# Altium integrated library TI Data Converters Analog to Digital Converter.IntLib: 2197 symbols (part 111 of 168)
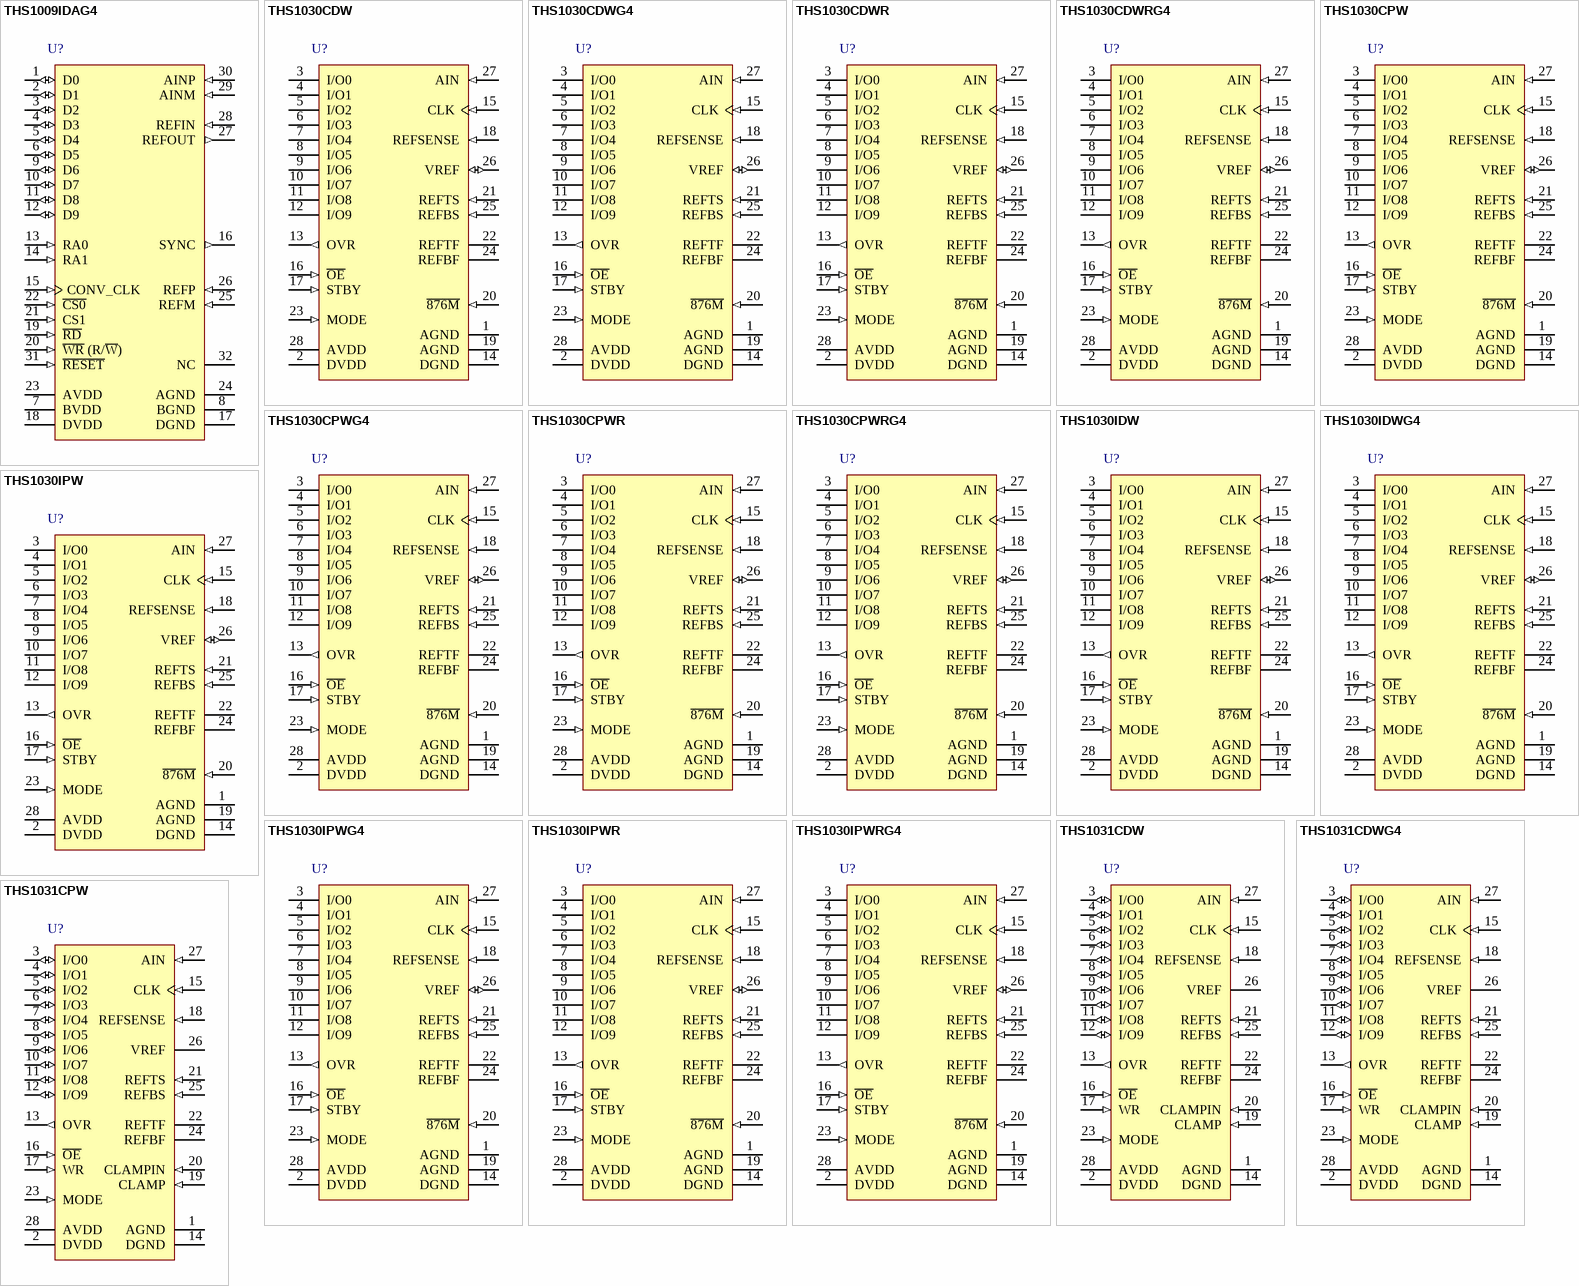
[diagram p236: symbols THS1009IDAG4 to THS1031CPW]

## THS1031CDW
designator U?
10-Bit, 30 MSPS ADC Single Channel, Integral Programmable Digital Clamp & Gain, Out of Range Indicator, Power Down, 0 to 70 degC, 28-pin SOIC (DW28), Green (RoHS & no Sb/Br); Manufacturer: Texas Instruments; PartNumber: THS1031CDW; # Input Channels: 1; Analog Voltage AV/DD(Max)(V): 5.5; Analog Voltage AV/DD(Min)(V): 3; Architecture: Pipeline; ENOB(Bits): 7.7; INL(Max)(+/-LSB): 2; Interface: Parallel CMOS; Resolution(Bits): 10; Sample Rate (max)(SPS): 30M; SFDR(dB): 48; SINAD(dB): 48.1; SNR(dB): 53; SubFamily: High Speed ADC (>10MSPS); DatasheetVersion: SLAS242E; PackageVersion: 4040000-6/G, 01/2011; PackageReference: DW28; PackageDescription: 28-Pin Plastic Small Outline, Body 17.90 x 7.50 mm, Pitch 1.27 mm; Supplier 1: Digi-Key; Supplier Part Number 1: ADS6222IRGZRG4-ND; Supplier 2: Mouser; Supplier Part Number 2: 595-ADS6222IRGZRG4; Digital Supply(Max)(V): 5.5; Digital Supply(Min)(V): 3; Eco-Plan: Green (RoHS & no Sb/Br); Mounting Technology: Surface Mount; Code_JEDEC: MS-013; ComponentLink1Description: Manufacturer URL; ComponentLink1URL: http://www.ti.com/; ComponentLink2Description: Datasheet; ComponentLink2URL: http://www.ti.com/general/docs/lit/getliterature.tsp?genericPartNumber=THS1031&fileType=pdf; ComponentLink3Description: Package Specification; ComponentLink3URL: http://www.ti.com/lit/ml/mpds175a/mpds175a.pdf
footprint TI-DW28_N (SOIC, 28-Leads, Body 17.9x7.5mm, Pitch 1.27mm, IPC Medium Density)
footprint TI-DW28_L (SOIC, 28-Leads, Body 17.9x7.5mm, Pitch 1.27mm, IPC High Density)
footprint TI-DW28_M (SOIC, 28-Leads, Body 17.9x7.5mm, Pitch 1.27mm, IPC Low Density)
pins: 1 AGND (power) "Analog ground", 2 DVDD (power) "Digital driver supply", 3 I/O0 (io) "Digital I/O bit 0 (LSB)", 4 I/O1 (io) "Digital I/O bit 1", 5 I/O2 (io) "Digital I/O bit 2", 6 I/O3 (io) "Digital I/O bit 3", 7 I/O4 (io) "Digital I/O bit 4", 8 I/O5 (io) "Digital I/O bit 5", 9 I/O6 (io) "Digital I/O bit 6", 10 I/O7 (io) "Digital I/O bit 7", 11 I/O8 (io) "Digital I/O bit 8", 12 I/O9 (io) "Digital I/O bit 9 (MSB)", 13 OVR (out) "Out-of-range indicator", 14 DGND (power) "Digital ground", 15 CLK (in) "Clock input", 16 ~{OE} (in) "High to 3-state the data bus, low to enable the data bus", 17 WR (in) "Write strobe", 18 REFSENSE (in) "Reference sense", 19 CLAMP (in) "High to enable clamp mode, low to disable clamp mode", 20 CLAMPIN (in) "Connect to an external analog clamp reference input", 21 REFTS (in) "Reference top sense", 22 REFTF "Reference top decoupling", 23 MODE (in) "Mode input", 24 REFBF "Reference bottom decoupling", 25 REFBS (in) "Reference bottom sense", 26 VREF "Internal and external reference", 27 AIN (in) "Analog input", 28 AVDD (power) "Analog supply"

## THS1031CDWG4
designator U?
10-Bit, 30 MSPS ADC Single Channel, Integral Programmable Digital Clamp & Gain, Out of Range Indicator, Power Down, 0 to 70 degC, 28-pin SOIC (DW28), Green (RoHS & no Sb/Br); Manufacturer: Texas Instruments; PartNumber: THS1031CDWG4; # Input Channels: 1; Analog Voltage AV/DD(Max)(V): 5.5; Analog Voltage AV/DD(Min)(V): 3; Architecture: Pipeline; ENOB(Bits): 7.7; INL(Max)(+/-LSB): 2; Interface: Parallel CMOS; Resolution(Bits): 10; Sample Rate (max)(SPS): 30M; SFDR(dB): 48; SINAD(dB): 48.1; SNR(dB): 53; SubFamily: High Speed ADC (>10MSPS); DatasheetVersion: SLAS242E; PackageVersion: 4040000-6/G, 01/2011; PackageReference: DW28; PackageDescription: 28-Pin Plastic Small Outline, Body 17.90 x 7.50 mm, Pitch 1.27 mm; Supplier 1: Digi-Key; Supplier Part Number 1: 296-22664-2-ND; Supplier 2: Digi-Key; Supplier Part Number 2: 296-22664-1-ND; Supplier 3: Digi-Key; Supplier Part Number 3: 296-22664-6-ND; Supplier 4: Farnell; Supplier Part Number 4: 1754716; Supplier 5: Newark; Supplier Part Number 5: 93R5054; Supplier 6: Mouser; Supplier Part Number 6: 595-ADS6222IRGZT; Digital Supply(Max)(V): 5.5; Digital Supply(Min)(V): 3; Eco-Plan: Green (RoHS & no Sb/Br); Mounting Technology: Surface Mount; Code_JEDEC: MS-013; ComponentLink1Description: Manufacturer URL; ComponentLink1URL: http://www.ti.com/; ComponentLink2Description: Datasheet; ComponentLink2URL: http://www.ti.com/general/docs/lit/getliterature.tsp?genericPartNumber=THS1031&fileType=pdf; ComponentLink3Description: Package Specification; ComponentLink3URL: http://www.ti.com/lit/ml/mpds175a/mpds175a.pdf
footprint TI-DW28_N (SOIC, 28-Leads, Body 17.9x7.5mm, Pitch 1.27mm, IPC Medium Density)
footprint TI-DW28_L (SOIC, 28-Leads, Body 17.9x7.5mm, Pitch 1.27mm, IPC High Density)
footprint TI-DW28_M (SOIC, 28-Leads, Body 17.9x7.5mm, Pitch 1.27mm, IPC Low Density)
pins: 1 AGND (power) "Analog ground", 2 DVDD (power) "Digital driver supply", 3 I/O0 (io) "Digital I/O bit 0 (LSB)", 4 I/O1 (io) "Digital I/O bit 1", 5 I/O2 (io) "Digital I/O bit 2", 6 I/O3 (io) "Digital I/O bit 3", 7 I/O4 (io) "Digital I/O bit 4", 8 I/O5 (io) "Digital I/O bit 5", 9 I/O6 (io) "Digital I/O bit 6", 10 I/O7 (io) "Digital I/O bit 7", 11 I/O8 (io) "Digital I/O bit 8", 12 I/O9 (io) "Digital I/O bit 9 (MSB)", 13 OVR (out) "Out-of-range indicator", 14 DGND (power) "Digital ground", 15 CLK (in) "Clock input", 16 ~{OE} (in) "High to 3-state the data bus, low to enable the data bus", 17 WR (in) "Write strobe", 18 REFSENSE (in) "Reference sense", 19 CLAMP (in) "High to enable clamp mode, low to disable clamp mode", 20 CLAMPIN (in) "Connect to an external analog clamp reference input", 21 REFTS (in) "Reference top sense", 22 REFTF "Reference top decoupling", 23 MODE (in) "Mode input", 24 REFBF "Reference bottom decoupling", 25 REFBS (in) "Reference bottom sense", 26 VREF "Internal and external reference", 27 AIN (in) "Analog input", 28 AVDD (power) "Analog supply"

## THS1031CPW
designator U?
10-Bit, 30 MSPS ADC Single Channel, Integral Programmable Digital Clamp & Gain, Out of Range Indicator, Power Down, 0 to 70 degC, 28-pin SOP (PW28), Green (RoHS & no Sb/Br); Manufacturer: Texas Instruments; PartNumber: THS1031CPW; # Input Channels: 1; Analog Voltage AV/DD(Max)(V): 5.5; Analog Voltage AV/DD(Min)(V): 3; Architecture: Pipeline; ENOB(Bits): 7.7; INL(Max)(+/-LSB): 2; Interface: Parallel CMOS; Resolution(Bits): 10; Sample Rate (max)(SPS): 30M; SFDR(dB): 48; SINAD(dB): 48.1; SNR(dB): 53; SubFamily: High Speed ADC (>10MSPS); DatasheetVersion: SLAS242E; PackageVersion: 4040064-7/G, 02/2011; PackageReference: PW28; PackageDescription: 28-Pin Plastic Small Outline, Body 9.7 x 4.4 mm, Pitch 0.65 mm; Supplier 1: Digi-Key; Supplier Part Number 1: ADS6222IRGZTG4-ND; Supplier 2: Mouser; Supplier Part Number 2: 595-ADS6222IRGZTG4; Digital Supply(Max)(V): 5.5; Digital Supply(Min)(V): 3; Eco-Plan: Green (RoHS & no Sb/Br); Mounting Technology: Surface Mount; Code_JEDEC: MO-153; ComponentLink1Description: Manufacturer URL; ComponentLink1URL: http://www.ti.com/; ComponentLink2Description: Datasheet; ComponentLink2URL: http://www.ti.com/general/docs/lit/getliterature.tsp?genericPartNumber=THS1031&fileType=pdf; ComponentLink3Description: Package Specification; ComponentLink3URL: http://www.ti.com/litv/pdf/mpds364
footprint TI-PW28_N (SOP, 28-Leads, Body 9.7x4.4mm, Pitch 0.65mm, IPC Medium Density)
footprint TI-PW28_L (SOP, 28-Leads, Body 9.7x4.4mm, Pitch 0.65mm, IPC High Density)
footprint TI-PW28_M (SOP, 28-Leads, Body 9.7x4.4mm, Pitch 0.65mm, IPC Low Density)
pins: 1 AGND (power) "Analog ground", 2 DVDD (power) "Digital driver supply", 3 I/O0 (io) "Digital I/O bit 0 (LSB)", 4 I/O1 (io) "Digital I/O bit 1", 5 I/O2 (io) "Digital I/O bit 2", 6 I/O3 (io) "Digital I/O bit 3", 7 I/O4 (io) "Digital I/O bit 4", 8 I/O5 (io) "Digital I/O bit 5", 9 I/O6 (io) "Digital I/O bit 6", 10 I/O7 (io) "Digital I/O bit 7", 11 I/O8 (io) "Digital I/O bit 8", 12 I/O9 (io) "Digital I/O bit 9 (MSB)", 13 OVR (out) "Out-of-range indicator", 14 DGND (power) "Digital ground", 15 CLK (in) "Clock input", 16 ~{OE} (in) "High to 3-state the data bus, low to enable the data bus", 17 WR (in) "Write strobe", 18 REFSENSE (in) "Reference sense", 19 CLAMP (in) "High to enable clamp mode, low to disable clamp mode", 20 CLAMPIN (in) "Connect to an external analog clamp reference input", 21 REFTS (in) "Reference top sense", 22 REFTF "Reference top decoupling", 23 MODE (in) "Mode input", 24 REFBF "Reference bottom decoupling", 25 REFBS (in) "Reference bottom sense", 26 VREF "Internal and external reference", 27 AIN (in) "Analog input", 28 AVDD (power) "Analog supply"

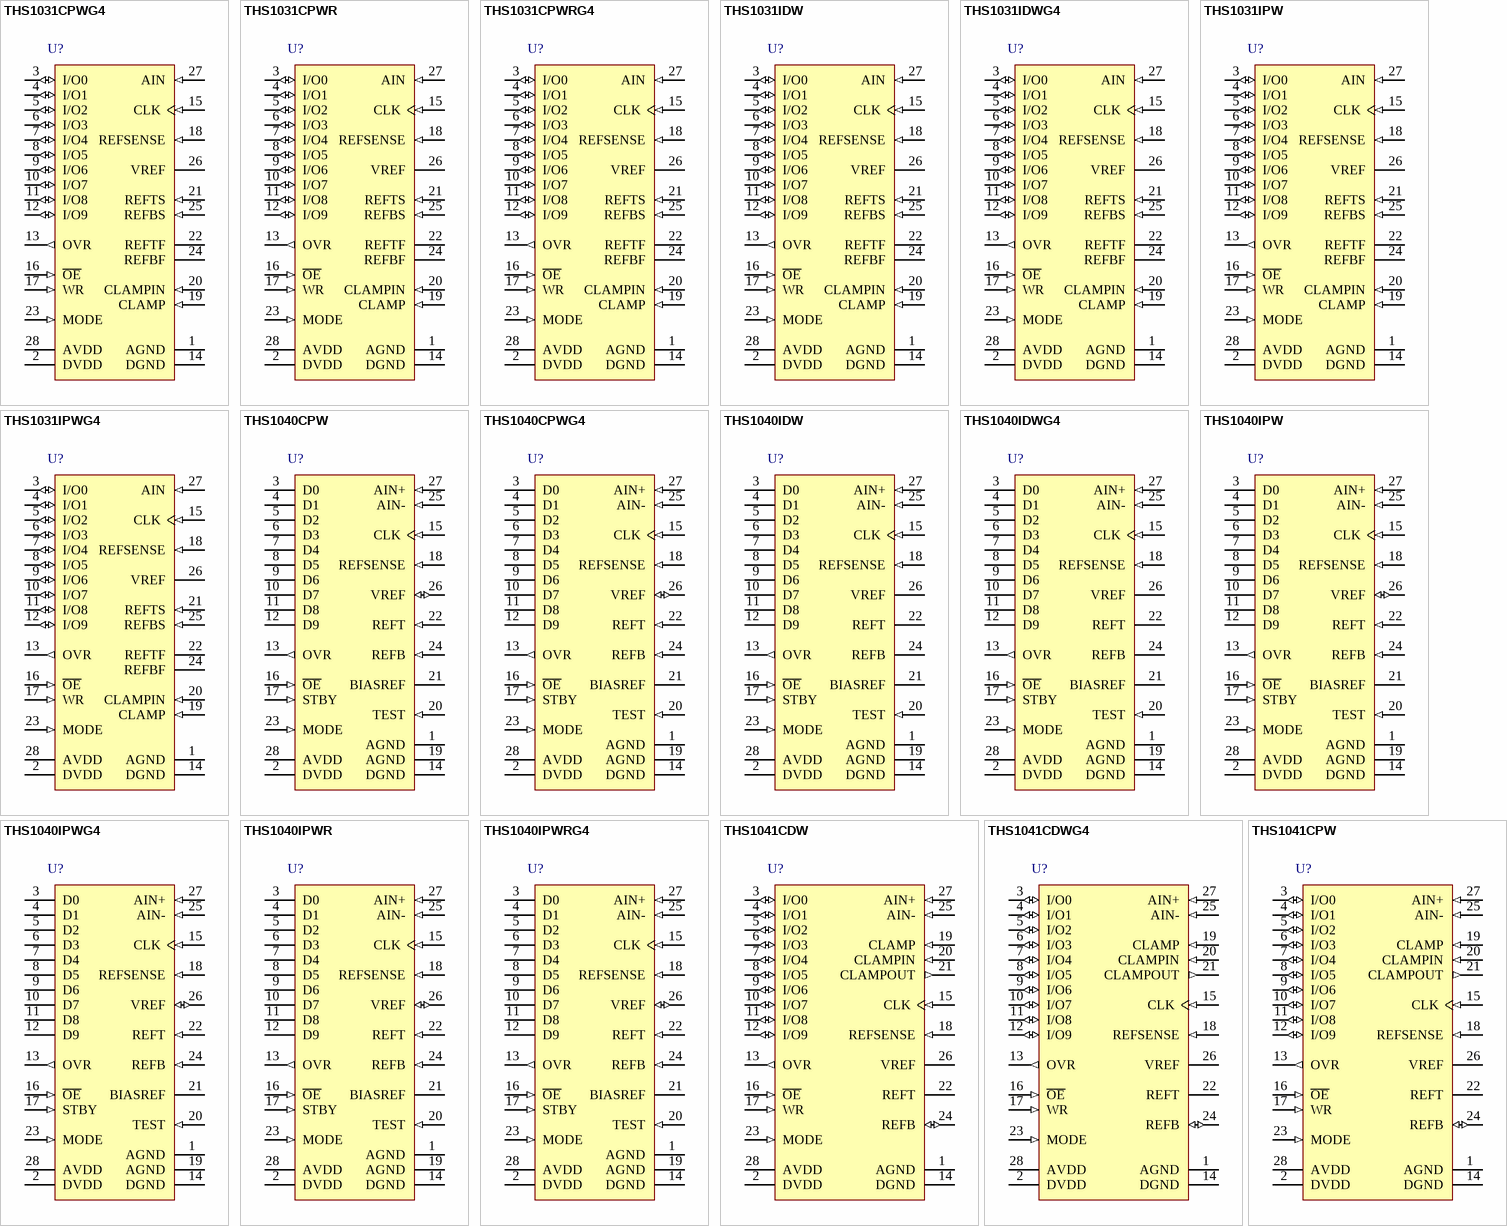
[diagram p95: symbols THS1031CPWG4 to THS1041CPW]

## THS1031CPWG4
designator U?
10-Bit, 30 MSPS ADC Single Channel, Integral Programmable Digital Clamp & Gain, Out of Range Indicator, Power Down, 0 to 70 degC, 28-pin SOP (PW28), Green (RoHS & no Sb/Br); Manufacturer: Texas Instruments; PartNumber: THS1031CPWG4; # Input Channels: 1; Analog Voltage AV/DD(Max)(V): 5.5; Analog Voltage AV/DD(Min)(V): 3; Architecture: Pipeline; ENOB(Bits): 7.7; INL(Max)(+/-LSB): 2; Interface: Parallel CMOS; Resolution(Bits): 10; Sample Rate (max)(SPS): 30M; SFDR(dB): 48; SINAD(dB): 48.1; SNR(dB): 53; SubFamily: High Speed ADC (>10MSPS); DatasheetVersion: SLAS242E; PackageVersion: 4040064-7/G, 02/2011; PackageReference: PW28; PackageDescription: 28-Pin Plastic Small Outline, Body 9.7 x 4.4 mm, Pitch 0.65 mm; Supplier 1: Digi-Key; Supplier Part Number 1: ADS6142IRHBR-ND; Supplier 2: Mouser; Supplier Part Number 2: 595-ADS6142IRHBR; Digital Supply(Max)(V): 5.5; Digital Supply(Min)(V): 3; Eco-Plan: Green (RoHS & no Sb/Br); Mounting Technology: Surface Mount; Code_JEDEC: MO-153; ComponentLink1Description: Manufacturer URL; ComponentLink1URL: http://www.ti.com/; ComponentLink2Description: Datasheet; ComponentLink2URL: http://www.ti.com/general/docs/lit/getliterature.tsp?genericPartNumber=THS1031&fileType=pdf; ComponentLink3Description: Package Specification; ComponentLink3URL: http://www.ti.com/litv/pdf/mpds364
footprint TI-PW28_N (SOP, 28-Leads, Body 9.7x4.4mm, Pitch 0.65mm, IPC Medium Density)
footprint TI-PW28_L (SOP, 28-Leads, Body 9.7x4.4mm, Pitch 0.65mm, IPC High Density)
footprint TI-PW28_M (SOP, 28-Leads, Body 9.7x4.4mm, Pitch 0.65mm, IPC Low Density)
pins: 1 AGND (power) "Analog ground", 2 DVDD (power) "Digital driver supply", 3 I/O0 (io) "Digital I/O bit 0 (LSB)", 4 I/O1 (io) "Digital I/O bit 1", 5 I/O2 (io) "Digital I/O bit 2", 6 I/O3 (io) "Digital I/O bit 3", 7 I/O4 (io) "Digital I/O bit 4", 8 I/O5 (io) "Digital I/O bit 5", 9 I/O6 (io) "Digital I/O bit 6", 10 I/O7 (io) "Digital I/O bit 7", 11 I/O8 (io) "Digital I/O bit 8", 12 I/O9 (io) "Digital I/O bit 9 (MSB)", 13 OVR (out) "Out-of-range indicator", 14 DGND (power) "Digital ground", 15 CLK (in) "Clock input", 16 ~{OE} (in) "High to 3-state the data bus, low to enable the data bus", 17 WR (in) "Write strobe", 18 REFSENSE (in) "Reference sense", 19 CLAMP (in) "High to enable clamp mode, low to disable clamp mode", 20 CLAMPIN (in) "Connect to an external analog clamp reference input", 21 REFTS (in) "Reference top sense", 22 REFTF "Reference top decoupling", 23 MODE (in) "Mode input", 24 REFBF "Reference bottom decoupling", 25 REFBS (in) "Reference bottom sense", 26 VREF "Internal and external reference", 27 AIN (in) "Analog input", 28 AVDD (power) "Analog supply"

## THS1031CPWR
designator U?
10-Bit, 30 MSPS ADC Single Channel, Integral Programmable Digital Clamp & Gain, Out of Range Indicator, Power Down, 0 to 70 degC, 28-pin SOP (PW28), Green (RoHS & no Sb/Br); Manufacturer: Texas Instruments; PartNumber: THS1031CPWR; # Input Channels: 1; Analog Voltage AV/DD(Max)(V): 5.5; Analog Voltage AV/DD(Min)(V): 3; Architecture: Pipeline; ENOB(Bits): 7.7; INL(Max)(+/-LSB): 2; Interface: Parallel CMOS; Resolution(Bits): 10; Sample Rate (max)(SPS): 30M; SFDR(dB): 48; SINAD(dB): 48.1; SNR(dB): 53; SubFamily: High Speed ADC (>10MSPS); DatasheetVersion: SLAS242E; PackageVersion: 4040064-7/G, 02/2011; PackageReference: PW28; PackageDescription: 28-Pin Plastic Small Outline, Body 9.7 x 4.4 mm, Pitch 0.65 mm; Supplier 1: Digi-Key; Supplier Part Number 1: ADS6142IRHBRG4-ND; Supplier 2: Mouser; Supplier Part Number 2: 595-ADS6142IRHBRG4; Digital Supply(Max)(V): 5.5; Digital Supply(Min)(V): 3; Eco-Plan: Green (RoHS & no Sb/Br); Mounting Technology: Surface Mount; Code_JEDEC: MO-153; ComponentLink1Description: Manufacturer URL; ComponentLink1URL: http://www.ti.com/; ComponentLink2Description: Datasheet; ComponentLink2URL: http://www.ti.com/general/docs/lit/getliterature.tsp?genericPartNumber=THS1031&fileType=pdf; ComponentLink3Description: Package Specification; ComponentLink3URL: http://www.ti.com/litv/pdf/mpds364
footprint TI-PW28_N (SOP, 28-Leads, Body 9.7x4.4mm, Pitch 0.65mm, IPC Medium Density)
footprint TI-PW28_L (SOP, 28-Leads, Body 9.7x4.4mm, Pitch 0.65mm, IPC High Density)
footprint TI-PW28_M (SOP, 28-Leads, Body 9.7x4.4mm, Pitch 0.65mm, IPC Low Density)
pins: 1 AGND (power) "Analog ground", 2 DVDD (power) "Digital driver supply", 3 I/O0 (io) "Digital I/O bit 0 (LSB)", 4 I/O1 (io) "Digital I/O bit 1", 5 I/O2 (io) "Digital I/O bit 2", 6 I/O3 (io) "Digital I/O bit 3", 7 I/O4 (io) "Digital I/O bit 4", 8 I/O5 (io) "Digital I/O bit 5", 9 I/O6 (io) "Digital I/O bit 6", 10 I/O7 (io) "Digital I/O bit 7", 11 I/O8 (io) "Digital I/O bit 8", 12 I/O9 (io) "Digital I/O bit 9 (MSB)", 13 OVR (out) "Out-of-range indicator", 14 DGND (power) "Digital ground", 15 CLK (in) "Clock input", 16 ~{OE} (in) "High to 3-state the data bus, low to enable the data bus", 17 WR (in) "Write strobe", 18 REFSENSE (in) "Reference sense", 19 CLAMP (in) "High to enable clamp mode, low to disable clamp mode", 20 CLAMPIN (in) "Connect to an external analog clamp reference input", 21 REFTS (in) "Reference top sense", 22 REFTF "Reference top decoupling", 23 MODE (in) "Mode input", 24 REFBF "Reference bottom decoupling", 25 REFBS (in) "Reference bottom sense", 26 VREF "Internal and external reference", 27 AIN (in) "Analog input", 28 AVDD (power) "Analog supply"

## THS1031CPWRG4
designator U?
10-Bit, 30 MSPS ADC Single Channel, Integral Programmable Digital Clamp & Gain, Out of Range Indicator, Power Down, 0 to 70 degC, 28-pin SOP (PW28), Green (RoHS & no Sb/Br); Manufacturer: Texas Instruments; PartNumber: THS1031CPWRG4; # Input Channels: 1; Analog Voltage AV/DD(Max)(V): 5.5; Analog Voltage AV/DD(Min)(V): 3; Architecture: Pipeline; ENOB(Bits): 7.7; INL(Max)(+/-LSB): 2; Interface: Parallel CMOS; Resolution(Bits): 10; Sample Rate (max)(SPS): 30M; SFDR(dB): 48; SINAD(dB): 48.1; SNR(dB): 53; SubFamily: High Speed ADC (>10MSPS); DatasheetVersion: SLAS242E; PackageVersion: 4040064-7/G, 02/2011; PackageReference: PW28; PackageDescription: 28-Pin Plastic Small Outline, Body 9.7 x 4.4 mm, Pitch 0.65 mm; Supplier 1: Digi-Key; Supplier Part Number 1: 296-22737-2-ND; Supplier 2: Digi-Key; Supplier Part Number 2: 296-22737-1-ND; Supplier 3: Digi-Key; Supplier Part Number 3: 296-22737-6-ND; Supplier 4: Farnell; Supplier Part Number 4: 1754708; Supplier 5: Newark; Supplier Part Number 5: 61M4802; Supplier 6: Mouser; Supplier Part Number 6: 595-ADS6142IRHBT; Digital Supply(Max)(V): 5.5; Digital Supply(Min)(V): 3; Eco-Plan: Green (RoHS & no Sb/Br); Mounting Technology: Surface Mount; Code_JEDEC: MO-153; ComponentLink1Description: Manufacturer URL; ComponentLink1URL: http://www.ti.com/; ComponentLink2Description: Datasheet; ComponentLink2URL: http://www.ti.com/general/docs/lit/getliterature.tsp?genericPartNumber=THS1031&fileType=pdf; ComponentLink3Description: Package Specification; ComponentLink3URL: http://www.ti.com/litv/pdf/mpds364
footprint TI-PW28_N (SOP, 28-Leads, Body 9.7x4.4mm, Pitch 0.65mm, IPC Medium Density)
footprint TI-PW28_L (SOP, 28-Leads, Body 9.7x4.4mm, Pitch 0.65mm, IPC High Density)
footprint TI-PW28_M (SOP, 28-Leads, Body 9.7x4.4mm, Pitch 0.65mm, IPC Low Density)
pins: 1 AGND (power) "Analog ground", 2 DVDD (power) "Digital driver supply", 3 I/O0 (io) "Digital I/O bit 0 (LSB)", 4 I/O1 (io) "Digital I/O bit 1", 5 I/O2 (io) "Digital I/O bit 2", 6 I/O3 (io) "Digital I/O bit 3", 7 I/O4 (io) "Digital I/O bit 4", 8 I/O5 (io) "Digital I/O bit 5", 9 I/O6 (io) "Digital I/O bit 6", 10 I/O7 (io) "Digital I/O bit 7", 11 I/O8 (io) "Digital I/O bit 8", 12 I/O9 (io) "Digital I/O bit 9 (MSB)", 13 OVR (out) "Out-of-range indicator", 14 DGND (power) "Digital ground", 15 CLK (in) "Clock input", 16 ~{OE} (in) "High to 3-state the data bus, low to enable the data bus", 17 WR (in) "Write strobe", 18 REFSENSE (in) "Reference sense", 19 CLAMP (in) "High to enable clamp mode, low to disable clamp mode", 20 CLAMPIN (in) "Connect to an external analog clamp reference input", 21 REFTS (in) "Reference top sense", 22 REFTF "Reference top decoupling", 23 MODE (in) "Mode input", 24 REFBF "Reference bottom decoupling", 25 REFBS (in) "Reference bottom sense", 26 VREF "Internal and external reference", 27 AIN (in) "Analog input", 28 AVDD (power) "Analog supply"

## THS1031IDW
designator U?
10-Bit, 30 MSPS ADC Single Channel, Integral Programmable Digital Clamp & Gain, Out of Range Indicator, Power Down, -40 to 85 degC, 28-pin SOIC (DW28), Green (RoHS & no Sb/Br); Manufacturer: Texas Instruments; PartNumber: THS1031IDW; # Input Channels: 1; Analog Voltage AV/DD(Max)(V): 5.5; Analog Voltage AV/DD(Min)(V): 3; Architecture: Pipeline; ENOB(Bits): 7.7; INL(Max)(+/-LSB): 2; Interface: Parallel CMOS; Resolution(Bits): 10; Sample Rate (max)(SPS): 30M; SFDR(dB): 48; SINAD(dB): 48.1; SNR(dB): 53; SubFamily: High Speed ADC (>10MSPS); DatasheetVersion: SLAS242E; PackageVersion: 4040000-6/G, 01/2011; PackageReference: DW28; PackageDescription: 28-Pin Plastic Small Outline, Body 17.90 x 7.50 mm, Pitch 1.27 mm; Supplier 1: Digi-Key; Supplier Part Number 1: ADS6142IRHBTG4-ND; Supplier 2: Mouser; Supplier Part Number 2: 595-ADS6142IRHBTG4; Digital Supply(Max)(V): 5.5; Digital Supply(Min)(V): 3; Eco-Plan: Green (RoHS & no Sb/Br); Mounting Technology: Surface Mount; Code_JEDEC: MS-013; ComponentLink1Description: Manufacturer URL; ComponentLink1URL: http://www.ti.com/; ComponentLink2Description: Datasheet; ComponentLink2URL: http://www.ti.com/general/docs/lit/getliterature.tsp?genericPartNumber=THS1031&fileType=pdf; ComponentLink3Description: Package Specification; ComponentLink3URL: http://www.ti.com/lit/ml/mpds175a/mpds175a.pdf
footprint TI-DW28_N (SOIC, 28-Leads, Body 17.9x7.5mm, Pitch 1.27mm, IPC Medium Density)
footprint TI-DW28_L (SOIC, 28-Leads, Body 17.9x7.5mm, Pitch 1.27mm, IPC High Density)
footprint TI-DW28_M (SOIC, 28-Leads, Body 17.9x7.5mm, Pitch 1.27mm, IPC Low Density)
pins: 1 AGND (power) "Analog ground", 2 DVDD (power) "Digital driver supply", 3 I/O0 (io) "Digital I/O bit 0 (LSB)", 4 I/O1 (io) "Digital I/O bit 1", 5 I/O2 (io) "Digital I/O bit 2", 6 I/O3 (io) "Digital I/O bit 3", 7 I/O4 (io) "Digital I/O bit 4", 8 I/O5 (io) "Digital I/O bit 5", 9 I/O6 (io) "Digital I/O bit 6", 10 I/O7 (io) "Digital I/O bit 7", 11 I/O8 (io) "Digital I/O bit 8", 12 I/O9 (io) "Digital I/O bit 9 (MSB)", 13 OVR (out) "Out-of-range indicator", 14 DGND (power) "Digital ground", 15 CLK (in) "Clock input", 16 ~{OE} (in) "High to 3-state the data bus, low to enable the data bus", 17 WR (in) "Write strobe", 18 REFSENSE (in) "Reference sense", 19 CLAMP (in) "High to enable clamp mode, low to disable clamp mode", 20 CLAMPIN (in) "Connect to an external analog clamp reference input", 21 REFTS (in) "Reference top sense", 22 REFTF "Reference top decoupling", 23 MODE (in) "Mode input", 24 REFBF "Reference bottom decoupling", 25 REFBS (in) "Reference bottom sense", 26 VREF "Internal and external reference", 27 AIN (in) "Analog input", 28 AVDD (power) "Analog supply"

## THS1031IDWG4
designator U?
10-Bit, 30 MSPS ADC Single Channel, Integral Programmable Digital Clamp & Gain, Out of Range Indicator, Power Down, -40 to 85 degC, 28-pin SOIC (DW28), Green (RoHS & no Sb/Br); Manufacturer: Texas Instruments; PartNumber: THS1031IDWG4; # Input Channels: 1; Analog Voltage AV/DD(Max)(V): 5.5; Analog Voltage AV/DD(Min)(V): 3; Architecture: Pipeline; ENOB(Bits): 7.7; INL(Max)(+/-LSB): 2; Interface: Parallel CMOS; Resolution(Bits): 10; Sample Rate (max)(SPS): 30M; SFDR(dB): 48; SINAD(dB): 48.1; SNR(dB): 53; SubFamily: High Speed ADC (>10MSPS); DatasheetVersion: SLAS242E; PackageVersion: 4040000-6/G, 01/2011; PackageReference: DW28; PackageDescription: 28-Pin Plastic Small Outline, Body 17.90 x 7.50 mm, Pitch 1.27 mm; Supplier 1: Digi-Key; Supplier Part Number 1: 296-10336-2-ND; Supplier 2: Digi-Key; Supplier Part Number 2: 296-10336-1-ND; Supplier 3: Digi-Key; Supplier Part Number 3: 296-10336-6-ND; Supplier 4: Mouser; Supplier Part Number 4: 595-TLC5540CNSR; Digital Supply(Max)(V): 5.5; Digital Supply(Min)(V): 3; Eco-Plan: Green (RoHS & no Sb/Br); Mounting Technology: Surface Mount; Code_JEDEC: MS-013; ComponentLink1Description: Manufacturer URL; ComponentLink1URL: http://www.ti.com/; ComponentLink2Description: Datasheet; ComponentLink2URL: http://www.ti.com/general/docs/lit/getliterature.tsp?genericPartNumber=THS1031&fileType=pdf; ComponentLink3Description: Package Specification; ComponentLink3URL: http://www.ti.com/lit/ml/mpds175a/mpds175a.pdf
footprint TI-DW28_N (SOIC, 28-Leads, Body 17.9x7.5mm, Pitch 1.27mm, IPC Medium Density)
footprint TI-DW28_L (SOIC, 28-Leads, Body 17.9x7.5mm, Pitch 1.27mm, IPC High Density)
footprint TI-DW28_M (SOIC, 28-Leads, Body 17.9x7.5mm, Pitch 1.27mm, IPC Low Density)
pins: 1 AGND (power) "Analog ground", 2 DVDD (power) "Digital driver supply", 3 I/O0 (io) "Digital I/O bit 0 (LSB)", 4 I/O1 (io) "Digital I/O bit 1", 5 I/O2 (io) "Digital I/O bit 2", 6 I/O3 (io) "Digital I/O bit 3", 7 I/O4 (io) "Digital I/O bit 4", 8 I/O5 (io) "Digital I/O bit 5", 9 I/O6 (io) "Digital I/O bit 6", 10 I/O7 (io) "Digital I/O bit 7", 11 I/O8 (io) "Digital I/O bit 8", 12 I/O9 (io) "Digital I/O bit 9 (MSB)", 13 OVR (out) "Out-of-range indicator", 14 DGND (power) "Digital ground", 15 CLK (in) "Clock input", 16 ~{OE} (in) "High to 3-state the data bus, low to enable the data bus", 17 WR (in) "Write strobe", 18 REFSENSE (in) "Reference sense", 19 CLAMP (in) "High to enable clamp mode, low to disable clamp mode", 20 CLAMPIN (in) "Connect to an external analog clamp reference input", 21 REFTS (in) "Reference top sense", 22 REFTF "Reference top decoupling", 23 MODE (in) "Mode input", 24 REFBF "Reference bottom decoupling", 25 REFBS (in) "Reference bottom sense", 26 VREF "Internal and external reference", 27 AIN (in) "Analog input", 28 AVDD (power) "Analog supply"

## THS1031IPW
designator U?
10-Bit, 30 MSPS ADC Single Channel, Integral Programmable Digital Clamp & Gain, Out of Range Indicator, Power Down, -40 to 85 degC, 28-pin SOP (PW28), Green (RoHS & no Sb/Br); Manufacturer: Texas Instruments; PartNumber: THS1031IPW; # Input Channels: 1; Analog Voltage AV/DD(Max)(V): 5.5; Analog Voltage AV/DD(Min)(V): 3; Architecture: Pipeline; ENOB(Bits): 7.7; INL(Max)(+/-LSB): 2; Interface: Parallel CMOS; Resolution(Bits): 10; Sample Rate (max)(SPS): 30M; SFDR(dB): 48; SINAD(dB): 48.1; SNR(dB): 53; SubFamily: High Speed ADC (>10MSPS); DatasheetVersion: SLAS242E; PackageVersion: 4040064-7/G, 02/2011; PackageReference: PW28; PackageDescription: 28-Pin Plastic Small Outline, Body 9.7 x 4.4 mm, Pitch 0.65 mm; Supplier 1: Digi-Key; Supplier Part Number 1: TLC5540CNSRG4-ND; Supplier 2: Mouser; Supplier Part Number 2: 595-TLC5540CNSRG4; Digital Supply(Max)(V): 5.5; Digital Supply(Min)(V): 3; Eco-Plan: Green (RoHS & no Sb/Br); Mounting Technology: Surface Mount; Code_JEDEC: MO-153; ComponentLink1Description: Manufacturer URL; ComponentLink1URL: http://www.ti.com/; ComponentLink2Description: Datasheet; ComponentLink2URL: http://www.ti.com/general/docs/lit/getliterature.tsp?genericPartNumber=THS1031&fileType=pdf; ComponentLink3Description: Package Specification; ComponentLink3URL: http://www.ti.com/litv/pdf/mpds364
footprint TI-PW28_N (SOP, 28-Leads, Body 9.7x4.4mm, Pitch 0.65mm, IPC Medium Density)
footprint TI-PW28_L (SOP, 28-Leads, Body 9.7x4.4mm, Pitch 0.65mm, IPC High Density)
footprint TI-PW28_M (SOP, 28-Leads, Body 9.7x4.4mm, Pitch 0.65mm, IPC Low Density)
pins: 1 AGND (power) "Analog ground", 2 DVDD (power) "Digital driver supply", 3 I/O0 (io) "Digital I/O bit 0 (LSB)", 4 I/O1 (io) "Digital I/O bit 1", 5 I/O2 (io) "Digital I/O bit 2", 6 I/O3 (io) "Digital I/O bit 3", 7 I/O4 (io) "Digital I/O bit 4", 8 I/O5 (io) "Digital I/O bit 5", 9 I/O6 (io) "Digital I/O bit 6", 10 I/O7 (io) "Digital I/O bit 7", 11 I/O8 (io) "Digital I/O bit 8", 12 I/O9 (io) "Digital I/O bit 9 (MSB)", 13 OVR (out) "Out-of-range indicator", 14 DGND (power) "Digital ground", 15 CLK (in) "Clock input", 16 ~{OE} (in) "High to 3-state the data bus, low to enable the data bus", 17 WR (in) "Write strobe", 18 REFSENSE (in) "Reference sense", 19 CLAMP (in) "High to enable clamp mode, low to disable clamp mode", 20 CLAMPIN (in) "Connect to an external analog clamp reference input", 21 REFTS (in) "Reference top sense", 22 REFTF "Reference top decoupling", 23 MODE (in) "Mode input", 24 REFBF "Reference bottom decoupling", 25 REFBS (in) "Reference bottom sense", 26 VREF "Internal and external reference", 27 AIN (in) "Analog input", 28 AVDD (power) "Analog supply"

## THS1031IPWG4
designator U?
10-Bit, 30 MSPS ADC Single Channel, Integral Programmable Digital Clamp & Gain, Out of Range Indicator, Power Down, -40 to 85 degC, 28-pin SOP (PW28), Green (RoHS & no Sb/Br); Manufacturer: Texas Instruments; PartNumber: THS1031IPWG4; # Input Channels: 1; Analog Voltage AV/DD(Max)(V): 5.5; Analog Voltage AV/DD(Min)(V): 3; Architecture: Pipeline; ENOB(Bits): 7.7; INL(Max)(+/-LSB): 2; Interface: Parallel CMOS; Resolution(Bits): 10; Sample Rate (max)(SPS): 30M; SFDR(dB): 48; SINAD(dB): 48.1; SNR(dB): 53; SubFamily: High Speed ADC (>10MSPS); DatasheetVersion: SLAS242E; PackageVersion: 4040064-7/G, 02/2011; PackageReference: PW28; PackageDescription: 28-Pin Plastic Small Outline, Body 9.7 x 4.4 mm, Pitch 0.65 mm; Supplier 1: Digi-Key; Supplier Part Number 1: TLC5540CPW-ND; Supplier 2: Mouser; Supplier Part Number 2: 595-TLC5540CPW; Digital Supply(Max)(V): 5.5; Digital Supply(Min)(V): 3; Eco-Plan: Green (RoHS & no Sb/Br); Mounting Technology: Surface Mount; Code_JEDEC: MO-153; ComponentLink1Description: Manufacturer URL; ComponentLink1URL: http://www.ti.com/; ComponentLink2Description: Datasheet; ComponentLink2URL: http://www.ti.com/general/docs/lit/getliterature.tsp?genericPartNumber=THS1031&fileType=pdf; ComponentLink3Description: Package Specification; ComponentLink3URL: http://www.ti.com/litv/pdf/mpds364
footprint TI-PW28_N (SOP, 28-Leads, Body 9.7x4.4mm, Pitch 0.65mm, IPC Medium Density)
footprint TI-PW28_L (SOP, 28-Leads, Body 9.7x4.4mm, Pitch 0.65mm, IPC High Density)
footprint TI-PW28_M (SOP, 28-Leads, Body 9.7x4.4mm, Pitch 0.65mm, IPC Low Density)
pins: 1 AGND (power) "Analog ground", 2 DVDD (power) "Digital driver supply", 3 I/O0 (io) "Digital I/O bit 0 (LSB)", 4 I/O1 (io) "Digital I/O bit 1", 5 I/O2 (io) "Digital I/O bit 2", 6 I/O3 (io) "Digital I/O bit 3", 7 I/O4 (io) "Digital I/O bit 4", 8 I/O5 (io) "Digital I/O bit 5", 9 I/O6 (io) "Digital I/O bit 6", 10 I/O7 (io) "Digital I/O bit 7", 11 I/O8 (io) "Digital I/O bit 8", 12 I/O9 (io) "Digital I/O bit 9 (MSB)", 13 OVR (out) "Out-of-range indicator", 14 DGND (power) "Digital ground", 15 CLK (in) "Clock input", 16 ~{OE} (in) "High to 3-state the data bus, low to enable the data bus", 17 WR (in) "Write strobe", 18 REFSENSE (in) "Reference sense", 19 CLAMP (in) "High to enable clamp mode, low to disable clamp mode", 20 CLAMPIN (in) "Connect to an external analog clamp reference input", 21 REFTS (in) "Reference top sense", 22 REFTF "Reference top decoupling", 23 MODE (in) "Mode input", 24 REFBF "Reference bottom decoupling", 25 REFBS (in) "Reference bottom sense", 26 VREF "Internal and external reference", 27 AIN (in) "Analog input", 28 AVDD (power) "Analog supply"

## THS1040CPW
designator U?
10-Bit, 40 MSPS Low Power ADC, 0 to 70 degC, 28-pin SOP (PW28), Green (RoHS & no Sb/Br); Manufacturer: Texas Instruments; PartNumber: THS1040CPW; # Input Channels: 1; Analog Voltage AV/DD(Max)(V): 3.6; Analog Voltage AV/DD(Min)(V): 3; Architecture: Pipeline; ENOB(Bits): 9.5; INL(Max)(+/-LSB): 1.5; Interface: Parallel CMOS; Resolution(Bits): 10; Sample Rate (max)(SPS): 40M; SFDR(dB): 70; SINAD(dB): 59.6; SNR(dB): 57; SubFamily: High Speed ADC (>10MSPS); DatasheetVersion: SLAS290C; PackageVersion: 4040064-7/G, 02/2011; PackageReference: PW28; PackageDescription: 28-Pin Plastic Small Outline, Body 9.7 x 4.4 mm, Pitch 0.65 mm; Supplier 1: Digi-Key; Supplier Part Number 1: TLC5540CPWG4-ND; Supplier 2: Mouser; Supplier Part Number 2: 595-TLC5540CPWG4; Digital Supply(Max)(V): 3.6; Digital Supply(Min)(V): 3; Eco-Plan: Green (RoHS & no Sb/Br); Mounting Technology: Surface Mount; Code_JEDEC: MO-153; ComponentLink1Description: Manufacturer URL; ComponentLink1URL: http://www.ti.com/; ComponentLink2Description: Datasheet; ComponentLink2URL: http://www.ti.com/general/docs/lit/getliterature.tsp?genericPartNumber=THS1040&fileType=pdf; ComponentLink3Description: Package Specification; ComponentLink3URL: http://www.ti.com/litv/pdf/mpds364
footprint TI-PW28_N (SOP, 28-Leads, Body 9.7x4.4mm, Pitch 0.65mm, IPC Medium Density)
footprint TI-PW28_L (SOP, 28-Leads, Body 9.7x4.4mm, Pitch 0.65mm, IPC High Density)
footprint TI-PW28_M (SOP, 28-Leads, Body 9.7x4.4mm, Pitch 0.65mm, IPC Low Density)
pins: 1 AGND (power) "Analog ground", 2 DVDD (power) "Digital supply", 3 D0 (hiz) "Digital data bit 0 (LSB)", 4 D1 (hiz) "Digital data bit 1", 5 D2 (hiz) "Digital data bit 2", 6 D3 (hiz) "Digital data bit 3", 7 D4 (hiz) "Digital data bit 4", 8 D5 (hiz) "Digital data bit 5", 9 D6 (hiz) "Digital data bit 6", 10 D7 (hiz) "Digital data bit 7", 11 D8 (hiz) "Digital data bit 8", 12 D9 (hiz) "Digital data bit 9 (MSB)", 13 OVR (out) "Out-of-range indicator", 14 DGND (power) "Digital ground", 15 CLK (in) "Clock input", 16 ~{OE} (in) "High to 3-state the data bus, low to enable the data bus", 17 STBY (in) "Drive high to power-down the THS1040", 18 REFSENSE (in) "VREF mode control", 19 AGND (power) "Analog ground", 20 TEST (in) "Production test pin. Tie to DVDD or DGND", 21 BIASREF (hiz) "When the MODE pin is at AVDD, a buffered AVDD/2 is present at this pin that can be used by external input biasing circuits. The output is high impedance when MODE is AGND or AVDD/2.", 22 REFT (in) "Top ADC reference voltage", 23 MODE (in) "Operating mode select (AGND, AVDD/2, or AVDD)", 24 REFB (in) "Bottom ADC reference voltage", 25 AIN- (in) "Negative analog input", 26 VREF (io) "Internal or external reference", 27 AIN+ (in) "Positive analog input", 28 AVDD (power) "Analog supply"

## THS1040CPWG4
designator U?
10-Bit, 40 MSPS Low Power ADC, 0 to 70 degC, 28-pin SOP (PW28), Green (RoHS & no Sb/Br); Manufacturer: Texas Instruments; PartNumber: THS1040CPWG4; # Input Channels: 1; Analog Voltage AV/DD(Max)(V): 3.6; Analog Voltage AV/DD(Min)(V): 3; Architecture: Pipeline; ENOB(Bits): 9.5; INL(Max)(+/-LSB): 1.5; Interface: Parallel CMOS; Resolution(Bits): 10; Sample Rate (max)(SPS): 40M; SFDR(dB): 70; SINAD(dB): 59.6; SNR(dB): 57; SubFamily: High Speed ADC (>10MSPS); DatasheetVersion: SLAS290C; PackageVersion: 4040064-7/G, 02/2011; PackageReference: PW28; PackageDescription: 28-Pin Plastic Small Outline, Body 9.7 x 4.4 mm, Pitch 0.65 mm; Supplier 1: Digi-Key; Supplier Part Number 1: 296-10338-2-ND; Supplier 2: Digi-Key; Supplier Part Number 2: 296-10338-1-ND; Supplier 3: Digi-Key; Supplier Part Number 3: 296-10338-6-ND; Supplier 4: Mouser; Supplier Part Number 4: 595-TLC5540INSR; Digital Supply(Max)(V): 3.6; Digital Supply(Min)(V): 3; Eco-Plan: Green (RoHS & no Sb/Br); Mounting Technology: Surface Mount; Code_JEDEC: MO-153; ComponentLink1Description: Manufacturer URL; ComponentLink1URL: http://www.ti.com/; ComponentLink2Description: Datasheet; ComponentLink2URL: http://www.ti.com/general/docs/lit/getliterature.tsp?genericPartNumber=THS1040&fileType=pdf; ComponentLink3Description: Package Specification; ComponentLink3URL: http://www.ti.com/litv/pdf/mpds364
footprint TI-PW28_N (SOP, 28-Leads, Body 9.7x4.4mm, Pitch 0.65mm, IPC Medium Density)
footprint TI-PW28_L (SOP, 28-Leads, Body 9.7x4.4mm, Pitch 0.65mm, IPC High Density)
footprint TI-PW28_M (SOP, 28-Leads, Body 9.7x4.4mm, Pitch 0.65mm, IPC Low Density)
pins: 1 AGND (power) "Analog ground", 2 DVDD (power) "Digital supply", 3 D0 (hiz) "Digital data bit 0 (LSB)", 4 D1 (hiz) "Digital data bit 1", 5 D2 (hiz) "Digital data bit 2", 6 D3 (hiz) "Digital data bit 3", 7 D4 (hiz) "Digital data bit 4", 8 D5 (hiz) "Digital data bit 5", 9 D6 (hiz) "Digital data bit 6", 10 D7 (hiz) "Digital data bit 7", 11 D8 (hiz) "Digital data bit 8", 12 D9 (hiz) "Digital data bit 9 (MSB)", 13 OVR (out) "Out-of-range indicator", 14 DGND (power) "Digital ground", 15 CLK (in) "Clock input", 16 ~{OE} (in) "High to 3-state the data bus, low to enable the data bus", 17 STBY (in) "Drive high to power-down the THS1040", 18 REFSENSE (in) "VREF mode control", 19 AGND (power) "Analog ground", 20 TEST (in) "Production test pin. Tie to DVDD or DGND", 21 BIASREF (hiz) "When the MODE pin is at AVDD, a buffered AVDD/2 is present at this pin that can be used by external input biasing circuits. The output is high impedance when MODE is AGND or AVDD/2.", 22 REFT (in) "Top ADC reference voltage", 23 MODE (in) "Operating mode select (AGND, AVDD/2, or AVDD)", 24 REFB (in) "Bottom ADC reference voltage", 25 AIN- (in) "Negative analog input", 26 VREF (io) "Internal or external reference", 27 AIN+ (in) "Positive analog input", 28 AVDD (power) "Analog supply"

## THS1040IDW
designator U?
10-Bit, 40 MSPS Low Power ADC, -40 to 85 degC, 28-pin SOIC (DW28), Green (RoHS & no Sb/Br); Manufacturer: Texas Instruments; PartNumber: THS1040IDW; # Input Channels: 1; Analog Voltage AV/DD(Max)(V): 3.6; Analog Voltage AV/DD(Min)(V): 3; Architecture: Pipeline; ENOB(Bits): 9.5; INL(Max)(+/-LSB): 1.5; Interface: Parallel CMOS; Resolution(Bits): 10; Sample Rate (max)(SPS): 40M; SFDR(dB): 70; SINAD(dB): 59.6; SNR(dB): 57; SubFamily: High Speed ADC (>10MSPS); DatasheetVersion: SLAS290C; PackageVersion: 4040000-6/G, 01/2011; PackageReference: DW28; PackageDescription: 28-Pin Plastic Small Outline, Body 17.90 x 7.50 mm, Pitch 1.27 mm; Supplier 1: Digi-Key; Supplier Part Number 1: TLC5540INSRG4-ND; Supplier 2: Mouser; Supplier Part Number 2: 595-TLC5540INSRG4; Digital Supply(Max)(V): 3.6; Digital Supply(Min)(V): 3; Eco-Plan: Green (RoHS & no Sb/Br); Mounting Technology: Surface Mount; Code_JEDEC: MS-013; ComponentLink1Description: Manufacturer URL; ComponentLink1URL: http://www.ti.com/; ComponentLink2Description: Datasheet; ComponentLink2URL: http://www.ti.com/general/docs/lit/getliterature.tsp?genericPartNumber=THS1040&fileType=pdf; ComponentLink3Description: Package Specification; ComponentLink3URL: http://www.ti.com/lit/ml/mpds175a/mpds175a.pdf
footprint TI-DW28_N (SOIC, 28-Leads, Body 17.9x7.5mm, Pitch 1.27mm, IPC Medium Density)
footprint TI-DW28_L (SOIC, 28-Leads, Body 17.9x7.5mm, Pitch 1.27mm, IPC High Density)
footprint TI-DW28_M (SOIC, 28-Leads, Body 17.9x7.5mm, Pitch 1.27mm, IPC Low Density)
pins: 1 AGND (power) "Analog ground", 2 DVDD (power) "Digital supply", 3 D0 (hiz) "Digital data bit 0 (LSB)", 4 D1 (hiz) "Digital data bit 1", 5 D2 (hiz) "Digital data bit 2", 6 D3 (hiz) "Digital data bit 3", 7 D4 (hiz) "Digital data bit 4", 8 D5 (hiz) "Digital data bit 5", 9 D6 (hiz) "Digital data bit 6", 10 D7 (hiz) "Digital data bit 7", 11 D8 (hiz) "Digital data bit 8", 12 D9 (hiz) "Digital data bit 9", 13 OVR (out) "Out-of-range indicator", 14 DGND (power) "Digital ground", 15 CLK (in) "Clock input", 16 ~{OE} (in) "High to high-impedance state the data bus, low to enable the data bus", 17 STBY (in) "Drive high to power-down the THS1040", 18 REFSENSE (in) "VREF mode control", 19 AGND (power) "Analog ground", 20 TEST (in) "Production test pin. Tie to DVDD or DGND", 21 BIASREF (hiz) "When the MODE pin is at AVDD, a buffered AVDD/2 is present at this pin that can be used by external input biasing circuits. The output is high impedance when MODE is AGND or AVDD/2.", 22 REFT "Top ADC reference voltage", 23 MODE (in) "Operating mode select (AGND, AVDD/2, AVDD)", 24 REFB "Bottom ADC reference voltage", 25 AIN- (in) "Negative analog input", 26 VREF "Internal or external reference", 27 AIN+ (in) "Positive analog input", 28 AVDD (power) "Analog supply"

## THS1040IDWG4
designator U?
10-Bit, 40 MSPS Low Power ADC, -40 to 85 degC, 28-pin SOIC (DW28), Green (RoHS & no Sb/Br); Manufacturer: Texas Instruments; PartNumber: THS1040IDWG4; # Input Channels: 1; Analog Voltage AV/DD(Max)(V): 3.6; Analog Voltage AV/DD(Min)(V): 3; Architecture: Pipeline; ENOB(Bits): 9.5; INL(Max)(+/-LSB): 1.5; Interface: Parallel CMOS; Resolution(Bits): 10; Sample Rate (max)(SPS): 40M; SFDR(dB): 70; SINAD(dB): 59.6; SNR(dB): 57; SubFamily: High Speed ADC (>10MSPS); DatasheetVersion: SLAS290C; PackageVersion: 4040000-6/G, 01/2011; PackageReference: DW28; PackageDescription: 28-Pin Plastic Small Outline, Body 17.90 x 7.50 mm, Pitch 1.27 mm; Supplier 1: Digi-Key; Supplier Part Number 1: 296-2184-5-ND; Supplier 2: Newark; Supplier Part Number 2: 76C7449; Supplier 3: Mouser; Supplier Part Number 3: 595-TLC5540IPW; Digital Supply(Max)(V): 3.6; Digital Supply(Min)(V): 3; Eco-Plan: Green (RoHS & no Sb/Br); Mounting Technology: Surface Mount; Code_JEDEC: MS-013; ComponentLink1Description: Manufacturer URL; ComponentLink1URL: http://www.ti.com/; ComponentLink2Description: Datasheet; ComponentLink2URL: http://www.ti.com/general/docs/lit/getliterature.tsp?genericPartNumber=THS1040&fileType=pdf; ComponentLink3Description: Package Specification; ComponentLink3URL: http://www.ti.com/lit/ml/mpds175a/mpds175a.pdf
footprint TI-DW28_N (SOIC, 28-Leads, Body 17.9x7.5mm, Pitch 1.27mm, IPC Medium Density)
footprint TI-DW28_L (SOIC, 28-Leads, Body 17.9x7.5mm, Pitch 1.27mm, IPC High Density)
footprint TI-DW28_M (SOIC, 28-Leads, Body 17.9x7.5mm, Pitch 1.27mm, IPC Low Density)
pins: 1 AGND (power) "Analog ground", 2 DVDD (power) "Digital supply", 3 D0 (hiz) "Digital data bit 0 (LSB)", 4 D1 (hiz) "Digital data bit 1", 5 D2 (hiz) "Digital data bit 2", 6 D3 (hiz) "Digital data bit 3", 7 D4 (hiz) "Digital data bit 4", 8 D5 (hiz) "Digital data bit 5", 9 D6 (hiz) "Digital data bit 6", 10 D7 (hiz) "Digital data bit 7", 11 D8 (hiz) "Digital data bit 8", 12 D9 (hiz) "Digital data bit 9", 13 OVR (out) "Out-of-range indicator", 14 DGND (power) "Digital ground", 15 CLK (in) "Clock input", 16 ~{OE} (in) "High to high-impedance state the data bus, low to enable the data bus", 17 STBY (in) "Drive high to power-down the THS1040", 18 REFSENSE (in) "VREF mode control", 19 AGND (power) "Analog ground", 20 TEST (in) "Production test pin. Tie to DVDD or DGND", 21 BIASREF (hiz) "When the MODE pin is at AVDD, a buffered AVDD/2 is present at this pin that can be used by external input biasing circuits. The output is high impedance when MODE is AGND or AVDD/2.", 22 REFT "Top ADC reference voltage", 23 MODE (in) "Operating mode select (AGND, AVDD/2, AVDD)", 24 REFB "Bottom ADC reference voltage", 25 AIN- (in) "Negative analog input", 26 VREF "Internal or external reference", 27 AIN+ (in) "Positive analog input", 28 AVDD (power) "Analog supply"

## THS1040IPW
designator U?
10-Bit, 40 MSPS Low Power ADC, -40 to 85 degC, 28-pin SOP (PW28), Green (RoHS & no Sb/Br); Manufacturer: Texas Instruments; PartNumber: THS1040IPW; # Input Channels: 1; Analog Voltage AV/DD(Max)(V): 3.6; Analog Voltage AV/DD(Min)(V): 3; Architecture: Pipeline; ENOB(Bits): 9.5; INL(Max)(+/-LSB): 1.5; Interface: Parallel CMOS; Resolution(Bits): 10; Sample Rate (max)(SPS): 40M; SFDR(dB): 70; SINAD(dB): 59.6; SNR(dB): 57; SubFamily: High Speed ADC (>10MSPS); DatasheetVersion: SLAS290C; PackageVersion: 4040064-7/G, 02/2011; PackageReference: PW28; PackageDescription: 28-Pin Plastic Small Outline, Body 9.7 x 4.4 mm, Pitch 0.65 mm; Supplier 1: Digi-Key; Supplier Part Number 1: TLC5540IPWG4-ND; Supplier 2: Mouser; Supplier Part Number 2: 595-TLC5540IPWG4; Digital Supply(Max)(V): 3.6; Digital Supply(Min)(V): 3; Eco-Plan: Green (RoHS & no Sb/Br); Mounting Technology: Surface Mount; Code_JEDEC: MO-153; ComponentLink1Description: Manufacturer URL; ComponentLink1URL: http://www.ti.com/; ComponentLink2Description: Datasheet; ComponentLink2URL: http://www.ti.com/general/docs/lit/getliterature.tsp?genericPartNumber=THS1040&fileType=pdf; ComponentLink3Description: Package Specification; ComponentLink3URL: http://www.ti.com/litv/pdf/mpds364
footprint TI-PW28_N (SOP, 28-Leads, Body 9.7x4.4mm, Pitch 0.65mm, IPC Medium Density)
footprint TI-PW28_L (SOP, 28-Leads, Body 9.7x4.4mm, Pitch 0.65mm, IPC High Density)
footprint TI-PW28_M (SOP, 28-Leads, Body 9.7x4.4mm, Pitch 0.65mm, IPC Low Density)
pins: 1 AGND (power) "Analog ground", 2 DVDD (power) "Digital supply", 3 D0 (hiz) "Digital data bit 0 (LSB)", 4 D1 (hiz) "Digital data bit 1", 5 D2 (hiz) "Digital data bit 2", 6 D3 (hiz) "Digital data bit 3", 7 D4 (hiz) "Digital data bit 4", 8 D5 (hiz) "Digital data bit 5", 9 D6 (hiz) "Digital data bit 6", 10 D7 (hiz) "Digital data bit 7", 11 D8 (hiz) "Digital data bit 8", 12 D9 (hiz) "Digital data bit 9 (MSB)", 13 OVR (out) "Out-of-range indicator", 14 DGND (power) "Digital ground", 15 CLK (in) "Clock input", 16 ~{OE} (in) "High to 3-state the data bus, low to enable the data bus", 17 STBY (in) "Drive high to power-down the THS1040", 18 REFSENSE (in) "VREF mode control", 19 AGND (power) "Analog ground", 20 TEST (in) "Production test pin. Tie to DVDD or DGND", 21 BIASREF (hiz) "When the MODE pin is at AVDD, a buffered AVDD/2 is present at this pin that can be used by external input biasing circuits. The output is high impedance when MODE is AGND or AVDD/2.", 22 REFT (in) "Top ADC reference voltage", 23 MODE (in) "Operating mode select (AGND, AVDD/2, or AVDD)", 24 REFB (in) "Bottom ADC reference voltage", 25 AIN- (in) "Negative analog input", 26 VREF (io) "Internal or external reference", 27 AIN+ (in) "Positive analog input", 28 AVDD (power) "Analog supply"

## THS1040IPWG4
designator U?
10-Bit, 40 MSPS Low Power ADC, -40 to 85 degC, 28-pin SOP (PW28), Green (RoHS & no Sb/Br); Manufacturer: Texas Instruments; PartNumber: THS1040IPWG4; # Input Channels: 1; Analog Voltage AV/DD(Max)(V): 3.6; Analog Voltage AV/DD(Min)(V): 3; Architecture: Pipeline; ENOB(Bits): 9.5; INL(Max)(+/-LSB): 1.5; Interface: Parallel CMOS; Resolution(Bits): 10; Sample Rate (max)(SPS): 40M; SFDR(dB): 70; SINAD(dB): 59.6; SNR(dB): 57; SubFamily: High Speed ADC (>10MSPS); DatasheetVersion: SLAS290C; PackageVersion: 4040064-7/G, 02/2011; PackageReference: PW28; PackageDescription: 28-Pin Plastic Small Outline, Body 9.7 x 4.4 mm, Pitch 0.65 mm; Supplier 1: Digi-Key; Supplier Part Number 1: TLC5540IPWR-ND; Supplier 2: Mouser; Supplier Part Number 2: 595-TLC5540IPWR; Digital Supply(Max)(V): 3.6; Digital Supply(Min)(V): 3; Eco-Plan: Green (RoHS & no Sb/Br); Mounting Technology: Surface Mount; Code_JEDEC: MO-153; ComponentLink1Description: Manufacturer URL; ComponentLink1URL: http://www.ti.com/; ComponentLink2Description: Datasheet; ComponentLink2URL: http://www.ti.com/general/docs/lit/getliterature.tsp?genericPartNumber=THS1040&fileType=pdf; ComponentLink3Description: Package Specification; ComponentLink3URL: http://www.ti.com/litv/pdf/mpds364
footprint TI-PW28_N (SOP, 28-Leads, Body 9.7x4.4mm, Pitch 0.65mm, IPC Medium Density)
footprint TI-PW28_L (SOP, 28-Leads, Body 9.7x4.4mm, Pitch 0.65mm, IPC High Density)
footprint TI-PW28_M (SOP, 28-Leads, Body 9.7x4.4mm, Pitch 0.65mm, IPC Low Density)
pins: 1 AGND (power) "Analog ground", 2 DVDD (power) "Digital supply", 3 D0 (hiz) "Digital data bit 0 (LSB)", 4 D1 (hiz) "Digital data bit 1", 5 D2 (hiz) "Digital data bit 2", 6 D3 (hiz) "Digital data bit 3", 7 D4 (hiz) "Digital data bit 4", 8 D5 (hiz) "Digital data bit 5", 9 D6 (hiz) "Digital data bit 6", 10 D7 (hiz) "Digital data bit 7", 11 D8 (hiz) "Digital data bit 8", 12 D9 (hiz) "Digital data bit 9 (MSB)", 13 OVR (out) "Out-of-range indicator", 14 DGND (power) "Digital ground", 15 CLK (in) "Clock input", 16 ~{OE} (in) "High to 3-state the data bus, low to enable the data bus", 17 STBY (in) "Drive high to power-down the THS1040", 18 REFSENSE (in) "VREF mode control", 19 AGND (power) "Analog ground", 20 TEST (in) "Production test pin. Tie to DVDD or DGND", 21 BIASREF (hiz) "When the MODE pin is at AVDD, a buffered AVDD/2 is present at this pin that can be used by external input biasing circuits. The output is high impedance when MODE is AGND or AVDD/2.", 22 REFT (in) "Top ADC reference voltage", 23 MODE (in) "Operating mode select (AGND, AVDD/2, or AVDD)", 24 REFB (in) "Bottom ADC reference voltage", 25 AIN- (in) "Negative analog input", 26 VREF (io) "Internal or external reference", 27 AIN+ (in) "Positive analog input", 28 AVDD (power) "Analog supply"

## THS1040IPWR
designator U?
10-Bit, 40 MSPS Low Power ADC, -40 to 85 degC, 28-pin SOP (PW28), Green (RoHS & no Sb/Br); Manufacturer: Texas Instruments; PartNumber: THS1040IPWR; # Input Channels: 1; Analog Voltage AV/DD(Max)(V): 3.6; Analog Voltage AV/DD(Min)(V): 3; Architecture: Pipeline; ENOB(Bits): 9.5; INL(Max)(+/-LSB): 1.5; Interface: Parallel CMOS; Resolution(Bits): 10; Sample Rate (max)(SPS): 40M; SFDR(dB): 70; SINAD(dB): 59.6; SNR(dB): 57; SubFamily: High Speed ADC (>10MSPS); DatasheetVersion: SLAS290C; PackageVersion: 4040064-7/G, 02/2011; PackageReference: PW28; PackageDescription: 28-Pin Plastic Small Outline, Body 9.7 x 4.4 mm, Pitch 0.65 mm; Supplier 1: Digi-Key; Supplier Part Number 1: TLC5540IPWRG4-ND; Supplier 2: Mouser; Supplier Part Number 2: 595-TLC5540IPWRG4; Digital Supply(Max)(V): 3.6; Digital Supply(Min)(V): 3; Eco-Plan: Green (RoHS & no Sb/Br); Mounting Technology: Surface Mount; Code_JEDEC: MO-153; ComponentLink1Description: Manufacturer URL; ComponentLink1URL: http://www.ti.com/; ComponentLink2Description: Datasheet; ComponentLink2URL: http://www.ti.com/general/docs/lit/getliterature.tsp?genericPartNumber=THS1040&fileType=pdf; ComponentLink3Description: Package Specification; ComponentLink3URL: http://www.ti.com/litv/pdf/mpds364
footprint TI-PW28_N (SOP, 28-Leads, Body 9.7x4.4mm, Pitch 0.65mm, IPC Medium Density)
footprint TI-PW28_L (SOP, 28-Leads, Body 9.7x4.4mm, Pitch 0.65mm, IPC High Density)
footprint TI-PW28_M (SOP, 28-Leads, Body 9.7x4.4mm, Pitch 0.65mm, IPC Low Density)
pins: 1 AGND (power) "Analog ground", 2 DVDD (power) "Digital supply", 3 D0 (hiz) "Digital data bit 0 (LSB)", 4 D1 (hiz) "Digital data bit 1", 5 D2 (hiz) "Digital data bit 2", 6 D3 (hiz) "Digital data bit 3", 7 D4 (hiz) "Digital data bit 4", 8 D5 (hiz) "Digital data bit 5", 9 D6 (hiz) "Digital data bit 6", 10 D7 (hiz) "Digital data bit 7", 11 D8 (hiz) "Digital data bit 8", 12 D9 (hiz) "Digital data bit 9 (MSB)", 13 OVR (out) "Out-of-range indicator", 14 DGND (power) "Digital ground", 15 CLK (in) "Clock input", 16 ~{OE} (in) "High to 3-state the data bus, low to enable the data bus", 17 STBY (in) "Drive high to power-down the THS1040", 18 REFSENSE (in) "VREF mode control", 19 AGND (power) "Analog ground", 20 TEST (in) "Production test pin. Tie to DVDD or DGND", 21 BIASREF (hiz) "When the MODE pin is at AVDD, a buffered AVDD/2 is present at this pin that can be used by external input biasing circuits. The output is high impedance when MODE is AGND or AVDD/2.", 22 REFT (in) "Top ADC reference voltage", 23 MODE (in) "Operating mode select (AGND, AVDD/2, or AVDD)", 24 REFB (in) "Bottom ADC reference voltage", 25 AIN- (in) "Negative analog input", 26 VREF (io) "Internal or external reference", 27 AIN+ (in) "Positive analog input", 28 AVDD (power) "Analog supply"